# Altium schematic symbol library TransAmpLibs.SchLib: 6 symbols
Pins are listed as number, name and electrical type; pins without a type are passive.

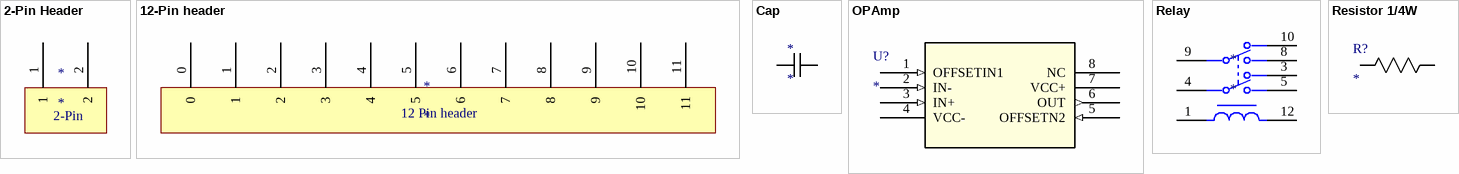
[diagram p0: symbols 2-Pin Header to Resistor 1/4W]

## 2-Pin Header
designator *
footprint 2 Pin header
pins: 1, 2
text: 2-Pin

## 12-Pin header
designator *
footprint 12 PIN HEADER
pins: 0, 1, 2, 3, 4, 5, 6, 7, 8, 9, 10, 11
text: 12 Pin header

## Cap
designator *
footprint Resistor 0.4W
pins: 1, 2

## OPAmp
designator U?
Mfr_Name: Texas Instruments; RefDes: RefDes; Type: Type
footprint OPamp
pins: 1 OFFSETIN1 (in), 2 IN- (in), 3 IN+ (in), 4 VCC- (power), 5 OFFSETN2 (in), 6 OUT (out), 7 VCC+ (power), 8 NC

## Relay
designator *
footprint Relay
pins: 1, 3, 4, 5, 8, 9, 10, 12

## Resistor 1/4W
designator R?
Mfr_Name: Vishay
footprint Resistor 0.4W
pins: 1, 2